# EAGLE library part C8051F502 (library wheat)
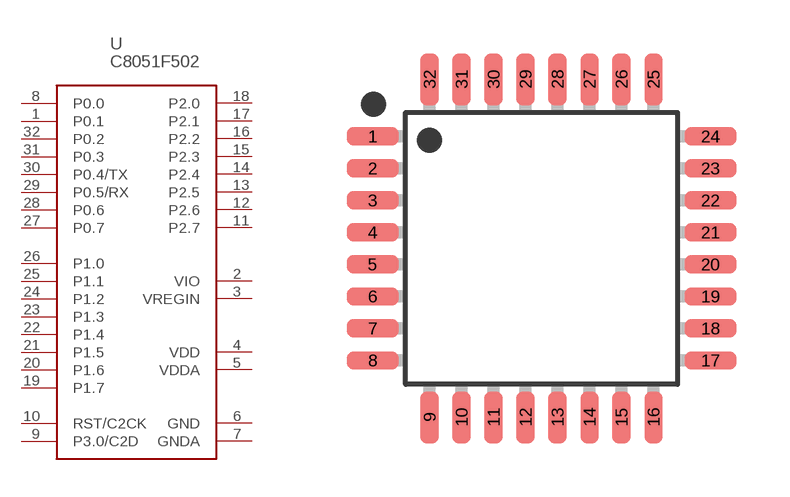
[diagram p187: symbol with the pads of QFP32_7X7; footprint QFP32_7X7]

Designator prefix U

## C8051F502-IQ  [QFP32_7X7]
1  P0.1
2  VIO  pwr
3  VREGIN  pwr
4  VDD  pwr
5  VDDA  pwr
6  GND  pwr
7  GNDA  pwr
8  P0.0
9  P3.0/C2D  in
10  RST/C2CK
11  P2.7
12  P2.6
13  P2.5
14  P2.4
15  P2.3
16  P2.2
17  P2.1
18  P2.0
19  P1.7
20  P1.6
21  P1.5
22  P1.4
23  P1.3
24  P1.2
25  P1.1
26  P1.0
27  P0.7
28  P0.6
29  P0.5/RX
30  P0.4/TX
31  P0.3
32  P0.2

## Footprint QFP32_7X7 (pad centres in mm)
smd 1.3 x 0.45: 1 -4.225,2.8; 2 -4.225,2; 3 -4.225,1.2; 4 -4.225,0.4; 5 -4.225,-0.4; 6 -4.225,-1.2; 7 -4.225,-2; 8 -4.225,-2.8; 17 4.225,-2.8; 18 4.225,-2; 19 4.225,-1.2; 20 4.225,-0.4; 21 4.225,0.4; 22 4.225,1.2; 23 4.225,2; 24 4.225,2.8
smd 0.45 x 1.3: 9 -2.8,-4.225; 10 -2,-4.225; 11 -1.2,-4.225; 12 -0.4,-4.225; 13 0.4,-4.225; 14 1.2,-4.225; 15 2,-4.225; 16 2.8,-4.225; 25 2.8,4.225; 26 2,4.225; 27 1.2,4.225; 28 0.4,4.225; 29 -0.4,4.225; 30 -1.2,4.225; 31 -2,4.225; 32 -2.8,4.225